# Altium schematic symbol library NEOWAY_G6.SchLib: 1 symbol
Pins are listed as number, name and electrical type; pins without a type are passive.

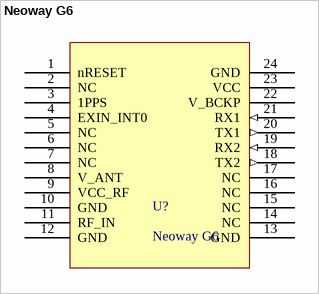
[diagram p0: symbol Neoway G6]

## Neoway G6
designator U?
Compact GNSS Module
footprint LCC-24PIN (Neoway G6 and etc. The recommended stencil thickness is at least 0.12 mm to 0.15 mm)
pins: 1 nRESET, 2 NC, 3 1PPS, 4 EXIN_INT0, 5 NC, 6 NC, 7 NC, 8 V_ANT (power), 9 VCC_RF (power), 10 GND (power), 11 RF_IN, 12 GND (power), 13 GND (power), 14 NC, 15 NC, 16 NC, 17 NC, 18 TX2 (out), 19 RX2 (in), 20 TX1 (out), 21 RX1 (in), 22 V_BCKP (power), 23 VCC (power), 24 GND (power)